# Altium schematic symbol library LT6656.SchLib: 1 symbol
Pins are listed as number, name and electrical type; pins without a type are passive.

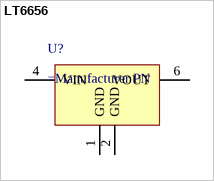
[diagram p0: symbol LT6656]

## LT6656
designator U?
pins: 1 GND, 2 GND, 3 NC hidden, 4 VIN, 5 NC hidden, 6 VOUT